# Altium schematic symbol library 7466310.SchLib: 1 symbol
Pins are listed as number, name and electrical type; pins without a type are passive.

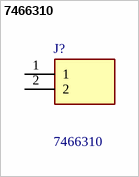
[diagram p0: symbol 7466310]

## 7466310
designator J?
Terminals WP-SMRA SMD w/Pins 5.5mm; Manufacturer_Name: Wurth Elektronik; Geometry.Height: 7mm; Manufacturer_Part_Number: 7466310; Mouser Part Number: 710-7466310; Mouser Price/Stock: https://www.mouser.co.uk/ProductDetail/Wurth-Elektronik/7466310?qs=HXFqYaX1Q2wJWeDTYvGsCg%3D%3D; Arrow Part Number: *; Arrow Price/Stock: *; Datasheet Link: https://www.we-online.com/catalog/datasheet/7466310.pdf
footprint 7466310
pins: 1, 2